# EAGLE library part AVRISP6 (library robot)
AVR ISP 6 Pin Connector
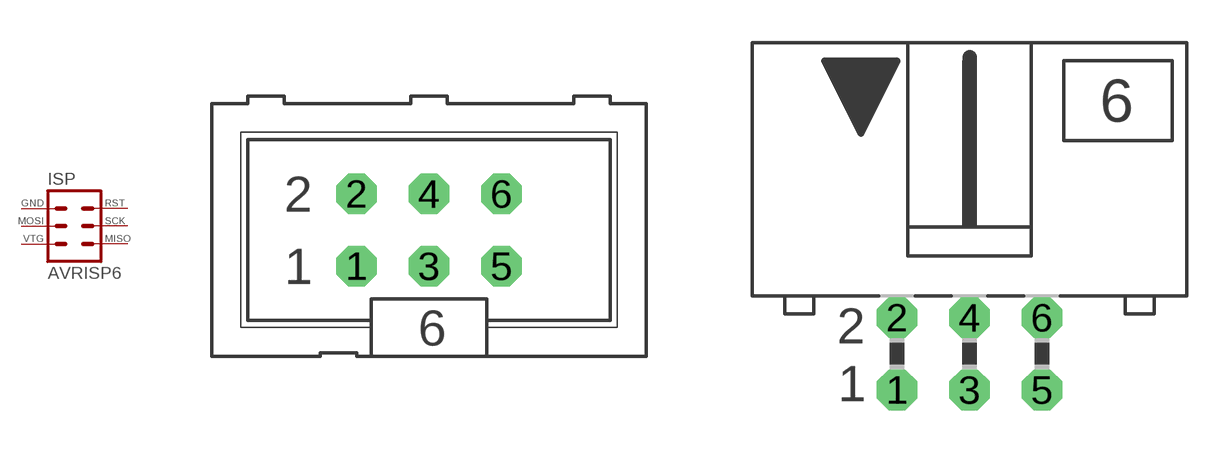
[diagram p0: symbol with the pads of ML6; footprints ML6, ML6L]

Designator prefix ISP

## AVRISP6  [ML6]
1  MISO  out
2  VTG  pwr
3  SCK  out
4  MOSI  out
5  RST  out
6  GND  pwr

## AVRISP6L  [ML6L]
Pads as for ML6

## Footprint ML6 (pad centres in mm)
HARTING
drill 0.914 octagon: 1 -2.54,-1.27; 2 -2.54,1.27; 3 0,-1.27; 4 0,1.27; 5 2.54,-1.27; 6 2.54,1.27

## Footprint ML6L (pad centres in mm)
HARTING
drill 0.914 octagon: 1 -2.54,-1.27; 2 -2.54,1.27; 3 0,-1.27; 4 0,1.27; 5 2.54,-1.27; 6 2.54,1.27